# EAGLE library part 418127160912 (library Wurth_Elektronik_Electromechanic_Switchs_rev15b)
WS-IC-2.54 mm small compact THT Dip Switch with top tape,24 pins,12 poles
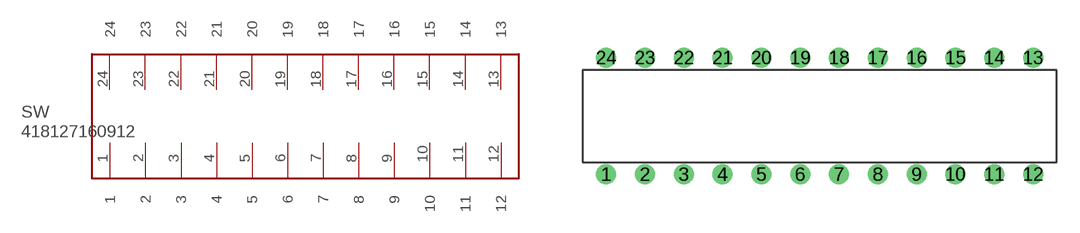
[diagram p56: symbol with the pads of 418127160912; footprint 418127160912]

Designator prefix SW

## 418127160912  [418127160912]
1  1
2  2
3  3
4  4
5  5
6  6
7  7
8  8
9  9
10  10
11  11
12  12
13  13
14  14
15  15
16  16
17  17
18  18
19  19
20  20
21  21
22  22
23  23
24  24

## Footprint 418127160912 (pad centres in mm)
WS-IC-2.54 mm small compact THT Dip Switch with top tape,24 pins,12 poles
drill 0.8: 1 0,-3.81; 2 2.54,-3.81; 3 5.08,-3.81; 4 7.62,-3.81; 5 10.16,-3.81; 6 12.7,-3.81; 7 15.24,-3.81; 8 17.78,-3.81; 9 20.32,-3.81; 10 22.86,-3.81; 11 25.4,-3.81; 12 27.94,-3.81; 13 27.94,3.81; 14 25.4,3.81; 15 22.86,3.81; 16 20.32,3.81; 17 17.78,3.81; 18 15.24,3.81; 19 12.7,3.81; 20 10.16,3.81; 21 7.62,3.81; 22 5.08,3.81; 23 2.54,3.81; 24 0,3.81